# EAGLE library part WCH_CH330N (library m_ic-comm)
CH330 USB to Serial Converter Product Link on LCSC <https://lcsc.com/product-detail/USB-ICs_WCH-Jiangsu-Qin-Heng-CH330N_C108996.html>
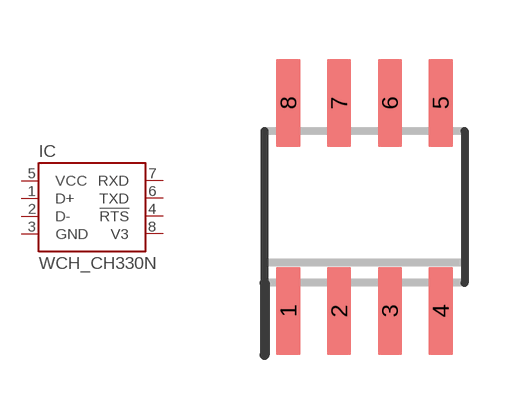
[diagram p9: symbol with the pads of SO08; footprint SO08]

Designator prefix IC

## WCH_CH330N (MANUF: WCH (Jiangsu Qin Heng); PARTNUM: CH330N; VALUE: CH330N)  [SO08]
1  D+  pas
2  D-  pas
3  GND  pas
4  !RTS  pas
5  VCC  pas
6  TXD  pas
7  RXD  pas
8  V3  pas

## Footprint SO08 (pad centres in mm)
SMALL OUTLINE INTEGRATED CIRCUIT body 3.9 mm/JEDEC MS-012AA Created from modified EAGLE smd-ipc.lbr on 2020-05-05
smd 0.6 x 2.2: 1 -1.905,-2.6; 2 -0.635,-2.6; 3 0.635,-2.6; 4 1.905,-2.6; 5 1.905,2.6; 6 0.635,2.6; 7 -0.635,2.6; 8 -1.905,2.6